# EAGLE library part BME280 (library scono)
https://www.digikey.com/product-detail/en/bosch-sensortec/BME280/828-1063-1-ND/6136314
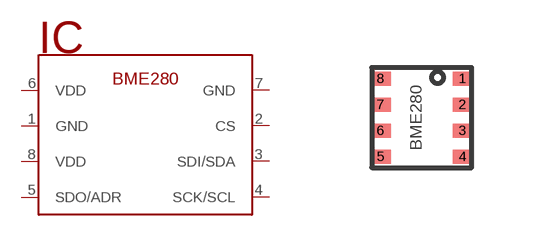
[diagram p30: symbol with the pads of BME280; footprint BME280]

Designator prefix IC

## BME280  [BME280]
1  GND
2  CS
3  SDI/SDA
4  SCK/SCL
5  SDO/ADR
6  VDD
7  GND
8  VDD

## Footprint BME280 (pad centres in mm)
https://www.digikey.com/product-detail/en/bosch-sensortec/BME280/828-1063-1-ND/6136314
smd 0.5 x 0.35: 1 1.025,0.975; 2 1.025,0.325; 3 1.025,-0.325; 4 1.025,-0.975; 5 -1.025,-0.975; 6 -1.025,-0.325; 7 -1.025,0.325; 8 -1.025,0.975